# EAGLE library part BQ24266RGET (library kitt.ic)
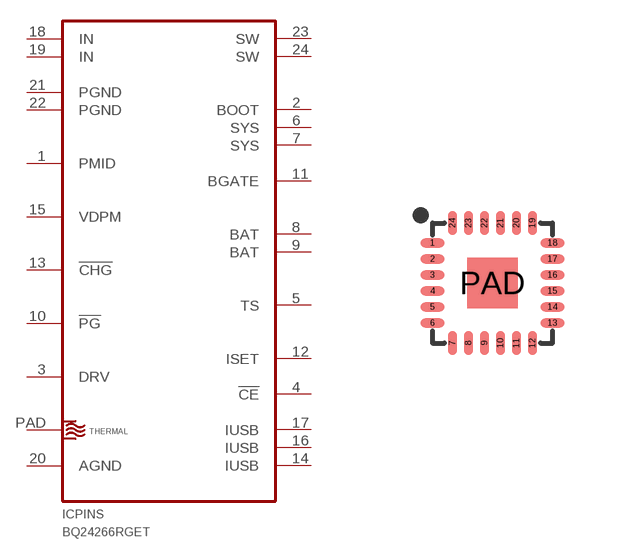
[diagram p1: symbol with the pads of VQFN-24; footprint VQFN-24]

Designator prefix IC; gates PINS=BQ24266RGET PAD=THERMAL

## BQ24266RGET  [VQFN-24]
1  PINS:PMID
2  PINS:BOOT
3  PINS:DRV
4  PINS:!CE
5  PINS:TS
6  PINS:SYS
7  PINS:SYS
8  PINS:BAT
9  PINS:BAT
10  PINS:!PG
11  PINS:BGATE
12  PINS:ISET
13  PINS:!CHG
14  PINS:IUSB
15  PINS:VDPM
16  PINS:IUSB
17  PINS:IUSB
18  PINS:IN
19  PINS:IN
20  PINS:AGND
21  PINS:PGND
22  PINS:PGND
23  PINS:SW
24  PINS:SW
PAD  PAD:THERMAL

## Footprint VQFN-24 (pad centres in mm)
smd 0.6 x 0.23: 1 -1.5,1; 2 -1.5,0.6; 3 -1.5,0.2; 4 -1.5,-0.2; 5 -1.5,-0.6; 6 -1.5,-1; 13 1.5,-1; 14 1.5,-0.6; 15 1.5,-0.2; 16 1.5,0.2; 17 1.5,0.6; 18 1.5,1
smd 0.23 x 0.6: 7 -1,-1.5; 8 -0.6,-1.5; 9 -0.2,-1.5; 10 0.2,-1.5; 11 0.6,-1.5; 12 1,-1.5; 19 1,1.5; 20 0.6,1.5; 21 0.2,1.5; 22 -0.2,1.5; 23 -0.6,1.5; 24 -1,1.5
smd 1.27 x 1.27: PAD 0,0